# EAGLE library part SWITCH-SLIDE_2C2P (library FaBo-Switch)
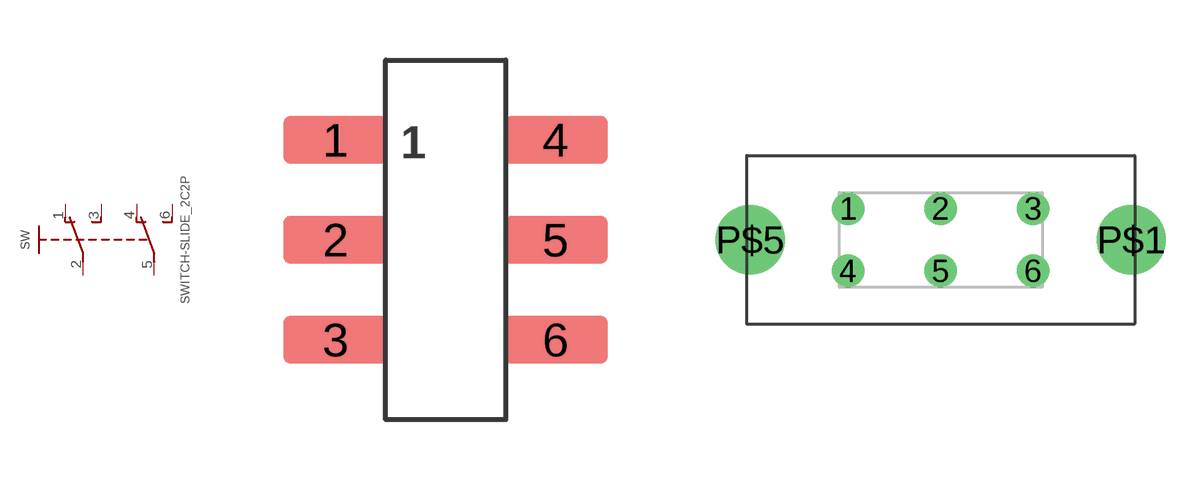
[diagram p1: symbol with the pads of JS202011SCQN; footprints JS202011SCQN, SS22F06G5-G]

Designator prefix SW

## SWITCH-SLIDE_2C2P-JS202011SCQN  [JS202011SCQN]
1  1  pas
2  2  pas
3  3  pas
4  4  pas
5  5  pas
6  6  pas

## SWITCH-SLIDE_2C2P-SS22F06G5-G  [SS22F06G5-G]
Pads as for JS202011SCQN

## Footprint JS202011SCQN (pad centres in mm)
smd 2.6 x 1.2: 1 -2.75,2.5; 2 -2.75,0; 3 -2.75,-2.5; 4 2.75,2.5; 5 2.75,0; 6 2.75,-2.5

## Footprint SS22F06G5-G (pad centres in mm)
drill 0.9: 1 -4,1.35; 2 0,1.35; 3 4,1.35; 4 -4,-1.35; 5 0,-1.35; 6 4,-1.35
drill 2: P$1 8.25,0; P$5 -8.25,0